# EAGLE library part ATXMEGA-A4U (library Kemper-DigitalIC)
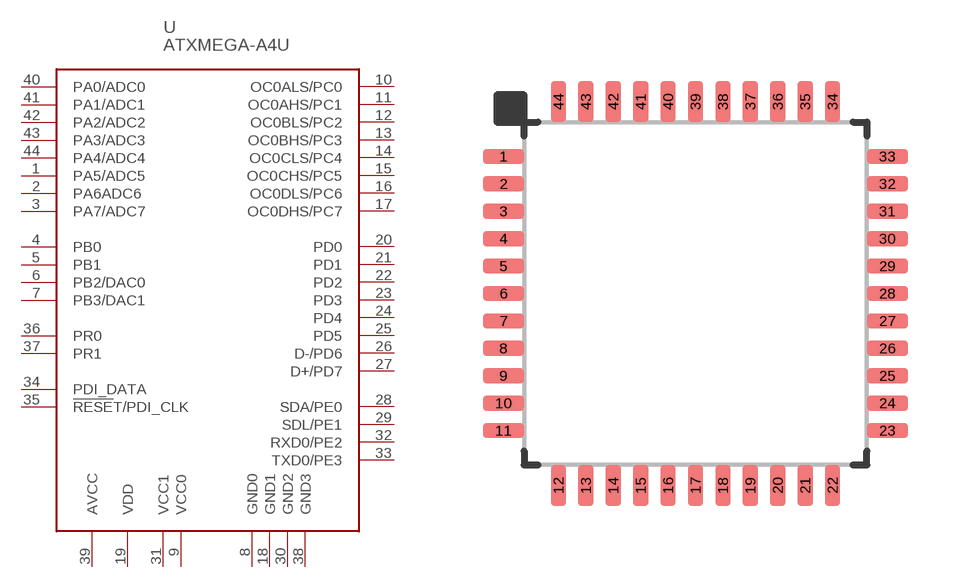
[diagram p0: symbol with the pads of ATXMEGA16A4U-AUR; footprint ATXMEGA16A4U-AUR]

Designator prefix U

## ATXMEGA-A4U (DIGIKEY: ATXMEGA16A4U-AURCT-ND)  [ATXMEGA16A4U-AUR]
1  PA5/ADC5
2  PA6ADC6
3  PA7/ADC7
4  PB0
5  PB1
6  PB2/DAC0
7  PB3/DAC1
8  GND0
9  VCC0
10  OC0ALS/PC0
11  OC0AHS/PC1
12  OC0BLS/PC2
13  OC0BHS/PC3
14  OC0CLS/PC4
15  OC0CHS/PC5
16  OC0DLS/PC6
17  OC0DHS/PC7
18  GND1
19  VDD
20  PD0
21  PD1
22  PD2
23  PD3
24  PD4
25  PD5
26  D-/PD6
27  D+/PD7
28  SDA/PE0
29  SDL/PE1
30  GND2
31  VCC1
32  RXD0/PE2
33  TXD0/PE3
34  PDI_DATA
35  !RESE!T/PDI_CLK
36  PR0
37  PR1
38  GND3
39  AVCC
40  PA0/ADC0
41  PA1/ADC1
42  PA2/ADC2
43  PA3/ADC3
44  PA4/ADC4

## Footprint ATXMEGA16A4U-AUR (pad centres in mm)
smd 1.2 x 0.45: 1 -5.6,4; 2 -5.6,3.2; 3 -5.6,2.4; 4 -5.6,1.6; 5 -5.6,0.8; 6 -5.6,0; 7 -5.6,-0.8; 8 -5.6,-1.6; 9 -5.6,-2.4; 10 -5.6,-3.2; 11 -5.6,-4; 23 5.6,-4; 24 5.6,-3.2; 25 5.6,-2.4; 26 5.6,-1.6; 27 5.6,-0.8; 28 5.6,0; 29 5.6,0.8; 30 5.6,1.6; 31 5.6,2.4; 32 5.6,3.2; 33 5.6,4
smd 0.45 x 1.2: 12 -4,-5.6; 13 -3.2,-5.6; 14 -2.4,-5.6; 15 -1.6,-5.6; 16 -0.8,-5.6; 17 0,-5.6; 18 0.8,-5.6; 19 1.6,-5.6; 20 2.4,-5.6; 21 3.2,-5.6; 22 4,-5.6; 34 4,5.6; 35 3.2,5.6; 36 2.4,5.6; 37 1.6,5.6; 38 0.8,5.6; 39 0,5.6; 40 -0.8,5.6; 41 -1.6,5.6; 42 -2.4,5.6; 43 -3.2,5.6; 44 -4,5.6